# Altium schematic symbol library Fuse-SF-0603S150M-2.SchLib: 1 symbol
Pins are listed as number, name and electrical type; pins without a type are passive.

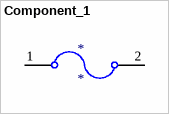
[diagram p0: symbol Component_1]

## Component_1
designator *
footprint 0603-CAP
pins: 1, 2